# Altium schematic symbol library 3x2_header.SchLib: 1 symbol
Pins are listed as number, name and electrical type; pins without a type are passive.

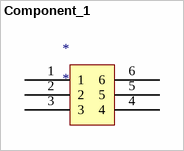
[diagram p0: symbol Component_1]

## Component_1
designator *
footprint DIP6
pins: 1, 2, 3, 4, 5, 6